# Altium schematic symbol library BSPD_schlibrary.SchLib: 22 symbols
Pins are listed as number, name and electrical type; pins without a type are passive.

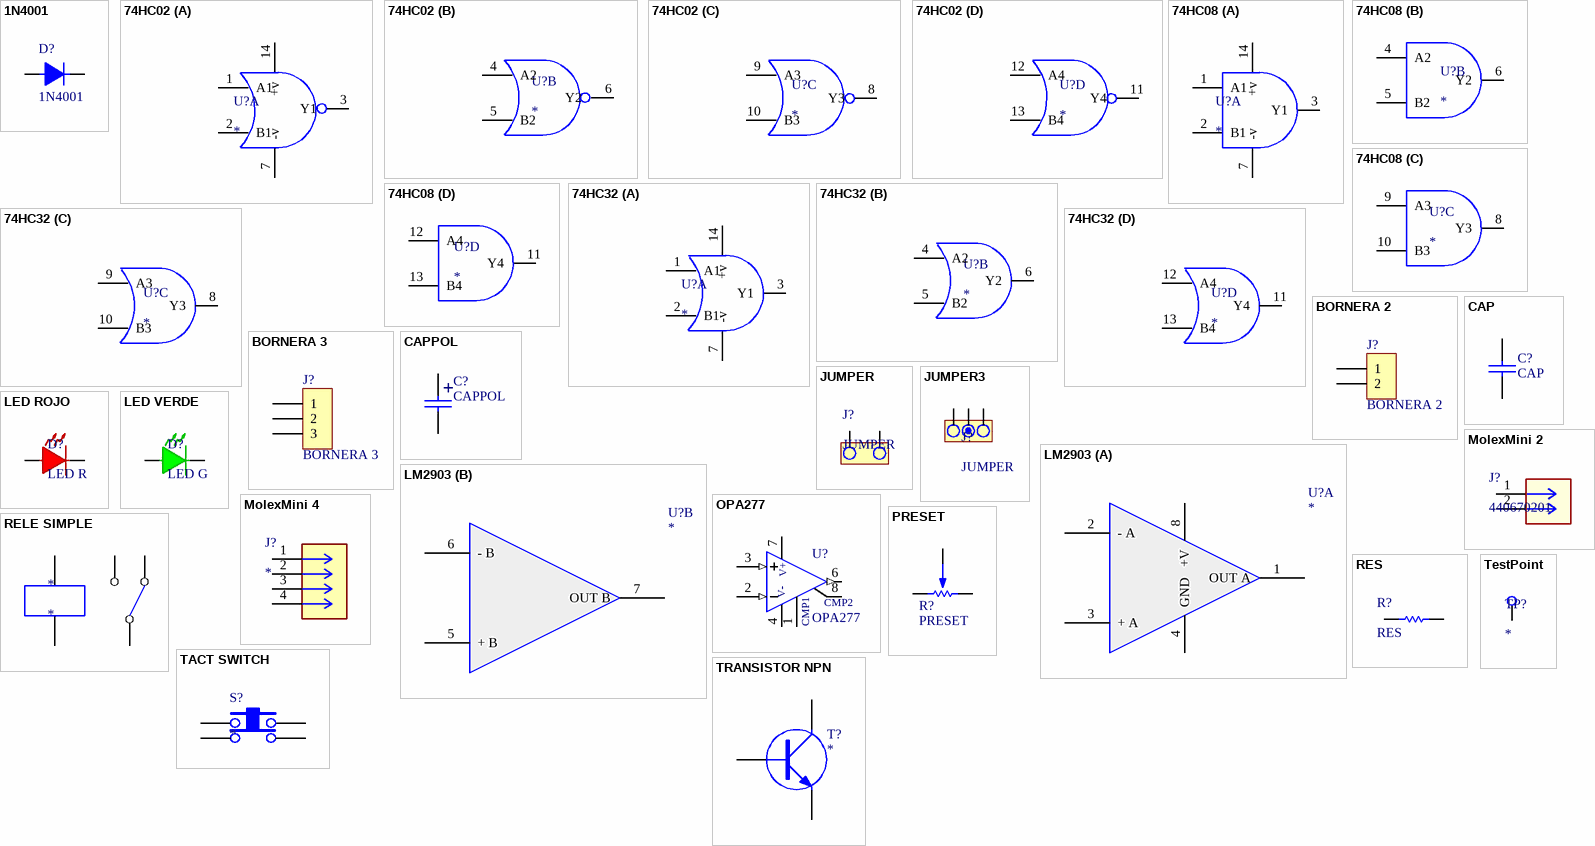
[diagram p0: symbols 1N4001 to TRANSISTOR NPN]

## 1N4001
designator D?
Diodo
footprint DO41
pins: 1, 2

## 74HC02
designator U?
Compuerta NOR; Autor: SALERNO, Santiago; fecha: 10/05/2019; datasheet: https://cdn.datasheetspdf.com/pdf-down/7/4/H/74HC14-ONSemiconductor.pdf
footprint DIP14
part A pins: 1 A1, 2 B1, 3 Y1, 7 -v, 14 +v
part B pins: 4 A2, 5 B2, 6 Y2
part C pins: 8 Y3, 9 A3, 10 B3
part D pins: 11 Y4, 12 A4, 13 B4

## 74HC08
designator U?
Compuerta AND; Autor: SALERNO, Santiago; fecha: 10/05/2019; datasheet: https://cdn.datasheetspdf.com/pdf-down/7/4/H/74HC14-ONSemiconductor.pdf
footprint DIP14
part A pins: 1 A1, 2 B1, 3 Y1, 7 -v, 14 +v
part B pins: 4 A2, 5 B2, 6 Y2
part C pins: 8 Y3, 9 A3, 10 B3
part D pins: 11 Y4, 12 A4, 13 B4

## 74HC32
designator U?
Compuerta OR; Autor: SALERNO, Santiago; fecha: 10/05/2019; datasheet: https://cdn.datasheetspdf.com/pdf-down/7/4/H/74HC14-ONSemiconductor.pdf
footprint DIP14
part A pins: 1 A1, 2 B1, 3 Y1, 7 -v, 14 +v
part B pins: 4 A2, 5 B2, 6 Y2
part C pins: 8 Y3, 9 A3, 10 B3
part D pins: 11 Y4, 12 A4, 13 B4

## BORNERA 2
designator J?
footprint BORNERA2 (Bornera con Tornillos 5mm separación)
pins: 1, 2

## BORNERA 3
designator J?
footprint BORNERA3 (Bornera con Tornillos 5mm separación)
pins: 1, 2, 3

## CAP
designator C?
footprint CAP200
pins: 1, 2

## CAPPOL
designator C?
footprint CAP100RP
pins: 1, 2
text: +

## JUMPER
designator J?
footprint 0805 (Pasivo 0805)
footprint JUMPER2
pins: 1, 2

## JUMPER3
designator J?, comment JUMPER
footprint JUMPER3
pins: 1, 2, 3

## LED ROJO
designator D?, comment LED R
LED ROJO
footprint LED 3 - Red
pins: 1, 2

## LED VERDE
designator D?, comment LED G
LED VERDE
footprint LED 3 - Green
pins: 1, 2

## LM2903
designator U?
Comparador
footprint DIP8
part A pins: 1 OUT A, 2 - A, 3 + A, 4 GND, 8 +V
part B pins: 5 + B, 6 - B, 7 OUT B

## MolexMini 2
designator J?, comment 440670201
Micro-Fit 3.0 Wire-to-Board Header, Dual Row, Vertical for up to 3.56mm Thick PCB, 2 Circuits, Tin (Sn) Plating; Manufacturer_Name: Molex Connector Corporation; Copyright: Copyright (C) 2025 Ultra Librarian. All rights reserved.; Manufacturer_Part_Number: 440670201; RefDes: RefDes; Type: Type
footprint CONN_SD-44067-001_02_MOL
pins: 1, 2

## MolexMini 4
designator J?
Molex mini 50 de 4 pines (440670401); MP: 347920040; Package: None; Price: None; Value: *; Availability: Unavailable
footprint CONN_SD-44067-001_04_MOL
pins: 1, 2, 3, 4

## OPA277
designator U?
/ Op Amp Single Low Offset Voltage Amplifier Â±18V 8-Pin PDIP Tube /; MF: Texas Instruments; SnapEDA_Link: https://www.snapeda.com/parts/OPA277/Texas+Instruments/view-part/?ref=snap; Package: None; MP: OPA277; Check_prices: https://www.snapeda.com/parts/OPA277/Texas+Instruments/view-part/?ref=eda; Value: *
footprint DIP8
pins: 1 CMP1, 2 -IN (in), 3 +IN (in), 4 V- (power), 6 OUT (out), 7 V+ (power), 8 CMP2

## PRESET
designator R?
footprint PRESET V
pins: 1, 2, 3

## RELE SIMPLE
designator *
footprint RELE SERIE 943
pins: B1, B2, C1, NA1, NC1

## RES
designator R?
footprint RES400
pins: 1, 2

## TACT SWITCH
designator S?
footprint TACTSWITCH
pins: 1, 2, 3, 4

## TestPoint
designator TP?
TestPoint con tira de pin individual
footprint SIP1
pins: 1 TP

## TRANSISTOR NPN
designator T?
footprint TO92
footprint TO-18
pins: 1 B, 2 C, 3 E